# Altium footprint library 3_way_triangular_solder_jumper_pad.PcbLib: 1 footprints
Each footprint in its own frame and in the unit in brackets; x right, y up, seen from the top. Pads: shape width x height; smd on the part's side, far side on the other; paste and mask are expansions set on the pad; w line width, h text height; cw(c..) or ccw(c..) is an arc to the next point about the centre after c.
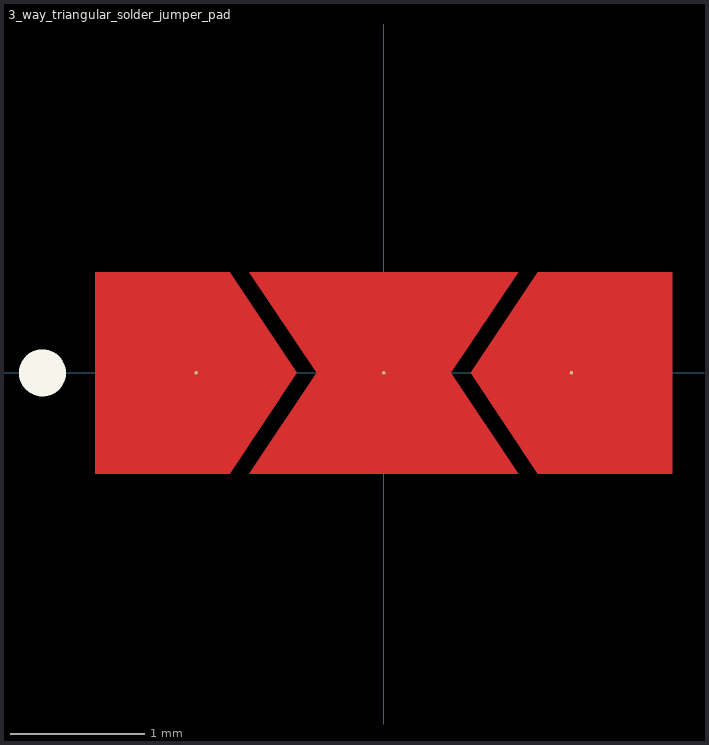
[diagram p0: the footprint, top view; thin cyan lines are the x and y axes]

## 3_way_triangular_solder_jumper_pad [mil]
pads (3):
  round 1 smd paste-99999 mask+5: 1(-55,0)
  round 1 smd mask+5: 2(0,0) 3(55,0)
Top Layer:
  region: -45.16,29.53 -84.53,29.53 -84.53,-29.53 -45.16,-29.53 -25.47,0
  region: 45.16,-29.53 84.53,-29.53 84.53,29.53 45.16,29.53 25.47,0
  region: -39.37,-29.53 0,-29.53 39.37,-29.53 19.68,0 39.37,29.53 0,29.53 -39.37,29.53 -19.68,0
Top Overlay:
  circle w9.84: c-100,0 r1.97
Top Paste:
  region: -45.16,29.53 -84.53,29.53 -84.53,-29.53 -45.16,-29.53 -25.47,0
Top Solder:
  lines w3.4: -69.57,-32.84 70.43,-32.84
  lines w4.8: -69.57,32.16 70.43,32.16
Mechanical 15:
  lines w5: -9.84,0 0,0 ; 0,-9.84 0,0 ; 0,9.84 0,0 ; 9.84,0 0,0